# Altium schematic symbol library EMG_Controlled_R5.SchLib: 316 symbols (part 3 of 5)
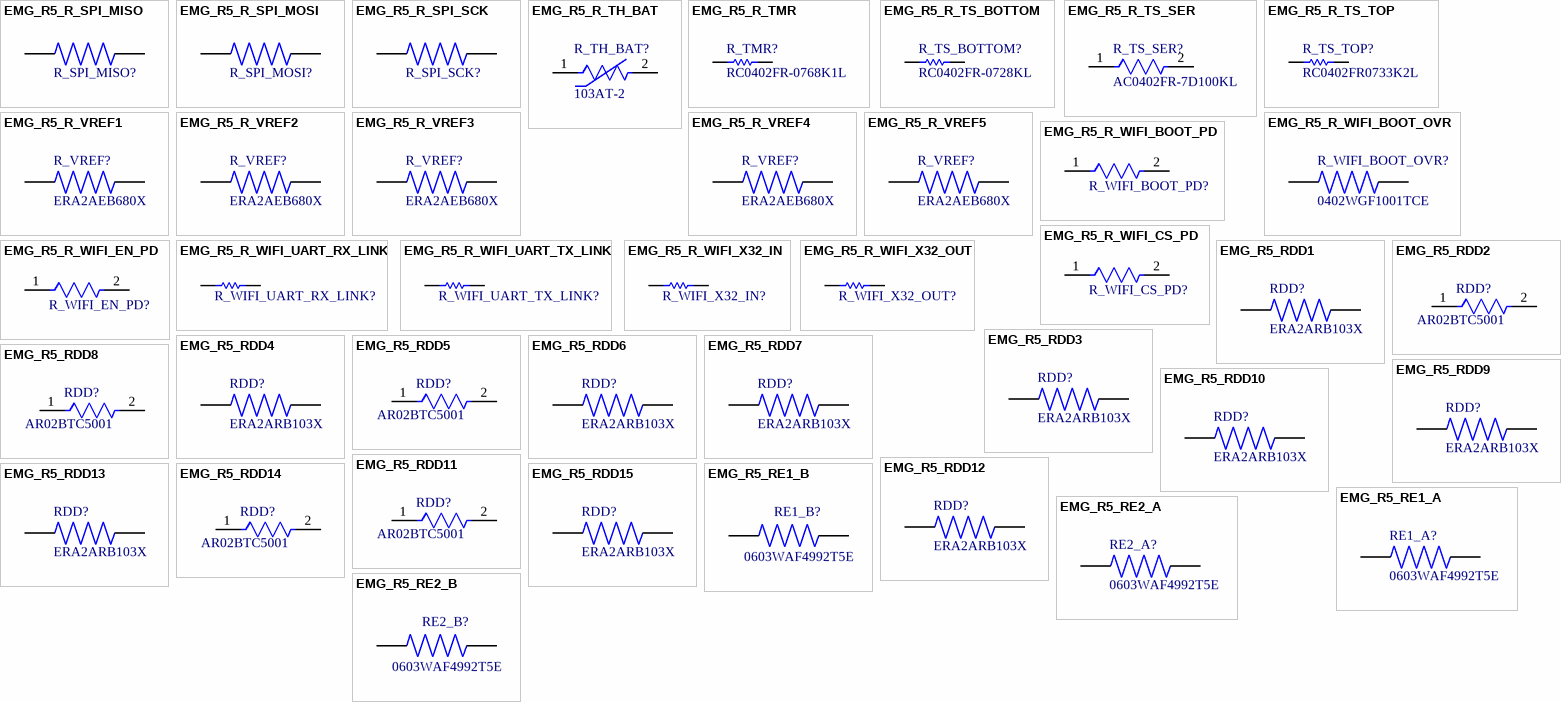
[diagram p10: symbols EMG_R5_R_SPI_MISO to EMG_R5_RE2_B]

## EMG_R5_R_SPI_MISO
designator R_SPI_MISO?, comment ERJ2RKF22R0X  (value not drawn)
22 Ohms Â±1% 0.1W, 1/10W Chip Resistor 0402 (1005 Metric) Automotive AEC-Q200 Thick Film; MF: Panasonic; Controlled Revision: R5 2026-09-16; project-local frozen symbol/footprint; MP: ERJ2RKF22R0X; Package: 1005-2 Panasonic; Value: *; Digi-Key_Part_Number: P22.0LTR-ND; Check_prices: https://www.snapeda.com/parts/ERJ2RKF22R0X/Panasonic/view-part/?ref=eda; SnapEDA_Link: https://www.snapeda.com/parts/ERJ2RKF22R0X/Panasonic/view-part/?ref=snap
footprint RES_ERJ2RKF22R0X
pins: 1, 2

## EMG_R5_R_SPI_MOSI
designator R_SPI_MOSI?, comment ERJ2RKF22R0X  (value not drawn)
22 Ohms Â±1% 0.1W, 1/10W Chip Resistor 0402 (1005 Metric) Automotive AEC-Q200 Thick Film; MF: Panasonic; Controlled Revision: R5 2026-09-16; project-local frozen symbol/footprint; MP: ERJ2RKF22R0X; Package: 1005-2 Panasonic; Value: *; Digi-Key_Part_Number: P22.0LTR-ND; Check_prices: https://www.snapeda.com/parts/ERJ2RKF22R0X/Panasonic/view-part/?ref=eda; SnapEDA_Link: https://www.snapeda.com/parts/ERJ2RKF22R0X/Panasonic/view-part/?ref=snap
footprint RES_ERJ2RKF22R0X
pins: 1, 2

## EMG_R5_R_SPI_SCK
designator R_SPI_SCK?, comment ERJ2RKF22R0X  (value not drawn)
22 Ohms Â±1% 0.1W, 1/10W Chip Resistor 0402 (1005 Metric) Automotive AEC-Q200 Thick Film; MF: Panasonic; Controlled Revision: R5 2026-09-16; project-local frozen symbol/footprint; MP: ERJ2RKF22R0X; Package: 1005-2 Panasonic; Value: *; Digi-Key_Part_Number: P22.0LTR-ND; Check_prices: https://www.snapeda.com/parts/ERJ2RKF22R0X/Panasonic/view-part/?ref=eda; SnapEDA_Link: https://www.snapeda.com/parts/ERJ2RKF22R0X/Panasonic/view-part/?ref=snap
footprint RES_ERJ2RKF22R0X
pins: 1, 2

## EMG_R5_R_TH_BAT
designator R_TH_BAT?, comment 103AT-2
Required remote cell-temperature NTC; manual off-board assembly; Manufacturer: SEMITEC Corporation; Resistance: 10 kohm at 25 C; Tolerance: +/-1% at 25 C; Beta B25/85: 3435 K +/-1%; Mounting_Location: Battery cell / off-board; Connection: Two insulated leads to R_TH_BAT pads: pad1 GND, pad2 BAT_TEMP; PCB_Auto_Assembly: Exclude - required manual off-board assembly item; Procurement_Quantity_Per_System: 1; Assembly PROTO_1_REMOTE_NTC: Required - manual remote assembly; Release Note: Only one connected NTC. Do not connect a second pack NTC to J_Li-Po pin2. Wire fit, insulation, cell attachment and strain relief require qualification.; Library Reference: EMG_R5_R_TH_BAT; Controlled Revision: Remote NTC 2026-09-16; project-local symbol and wire-termination model; Manufacturer Part Number: 103AT-2; Series: AT; Package: AT-2 resin-coated radial thermistor; body mounted on cell; Footprint: EMG_REMOTE_NTC_TERMINALS_2P; Assembly_Method: Manual; Population: Required; Datasheet: https://www.semitec-global.com/uploads/2022/01/P12-13-AT-Thermistor.pdf; Library Name: EMG_Controlled_R5.SchLib
footprint EMG_REMOTE_NTC_TERMINALS_2P
pins: 1, 2

## EMG_R5_R_TMR
designator R_TMR?, comment RC0402FR-0768K1L
Manufacturer: Yageo / Phycomp; Controlled Revision: R5 2026-09-16; project-local frozen symbol/footprint; Part Number: RC0402FR-0768K1L
footprint RESC1005X40X25ML05T10 (Chip Resistor, 2-Leads, Body 1.00x0.50mm, IPC Low Density)
pins: 1, 2
1 alternate drawing of the same symbol

## EMG_R5_R_TS_BOTTOM
designator R_TS_BOTTOM?, comment RC0402FR-0728KL
Manufacturer: Yageo; Controlled Revision: R5 2026-09-16; project-local frozen symbol/footprint; Part Number: RC0402FR-0728KL
footprint RESC1005X40X25NL05T10 (Chip Resistor, 2-Leads, Body 1.00x0.50mm, IPC Medium Density)
pins: 1, 2
1 alternate drawing of the same symbol

## EMG_R5_R_TS_SER
designator R_TS_SER?, comment AC0402FR-7D100KL
AC0402 100KΩ 0.0625W 1.00%; Manufacturer: Yageo; Automotive Grade: Grade 0; Voltage Rating: 50V; Tolerance: 0.01; Controlled Revision: R5 2026-09-16; project-local frozen symbol/footprint; Resistance: 100KΩ; Automotive: Yes; Device Class L1: Passive Components; Temperature Range High: +155°C; ComponentLink2URL: http://www.yageo.com/documents/recent/PYu-AC_51_RoHS_L_6.pdf; Footprint Url: http://www.yageo.com/exep/pages/download/literatures/PYu-R_Mount_10.pdf; Power Rating: 0.0625W; RoHS: TRUE; Category: Res; Package: AC0402; Octopart: https://octopart.com/ac0402fr-7d100kl-yageo-91024821; Device Class L2: Resistors; Series: AC; Height: 0.37mm; ComponentLink2Description: Datasheet; Lead Free: Yes; Temperature Range Low: -55°C; Value: 100KΩ; Temperature: -55°C to +155°C; Ipc Land Pattern Name: RESC10050X32; Device Class L3: Chip SMD Resistors; Manufacturer Part Number: AC0402FR-7D100KL; Composition: Thick Film
footprint FP-AC0402-MFG
pins: 1, 2

## EMG_R5_R_TS_TOP
designator R_TS_TOP?, comment RC0402FR0733K2L
Manufacturer: Yageo / Phycomp; Controlled Revision: R5 2026-09-16; project-local frozen symbol/footprint; Part Number: RC0402FR0733K2L
footprint RESC1005X40X25NL05T10 (Chip Resistor, 2-Leads, Body 1.00x0.50mm, IPC Medium Density)
pins: 1, 2
1 alternate drawing of the same symbol

## EMG_R5_R_VREF1
designator R_VREF?, comment ERA2AEB680X
Controlled Revision: R5 2026-09-16; project-local frozen symbol/footprint; Value: *; Package: None; MP: ERA2AEB680X; Price: None; Availability: Unavailable
footprint RES_ERA2AEB680X
pins: 1, 2

## EMG_R5_R_VREF2
designator R_VREF?, comment ERA2AEB680X
Controlled Revision: R5 2026-09-16; project-local frozen symbol/footprint; Value: *; Package: None; MP: ERA2AEB680X; Price: None; Availability: Unavailable
footprint RES_ERA2AEB680X
pins: 1, 2

## EMG_R5_R_VREF3
designator R_VREF?, comment ERA2AEB680X
Controlled Revision: R5 2026-09-16; project-local frozen symbol/footprint; Value: *; Package: None; MP: ERA2AEB680X; Price: None; Availability: Unavailable
footprint RES_ERA2AEB680X
pins: 1, 2

## EMG_R5_R_VREF4
designator R_VREF?, comment ERA2AEB680X
Controlled Revision: R5 2026-09-16; project-local frozen symbol/footprint; Value: *; Package: None; MP: ERA2AEB680X; Price: None; Availability: Unavailable
footprint RES_ERA2AEB680X
pins: 1, 2

## EMG_R5_R_VREF5
designator R_VREF?, comment ERA2AEB680X
Controlled Revision: R5 2026-09-16; project-local frozen symbol/footprint; Value: *; Package: None; MP: ERA2AEB680X; Price: None; Availability: Unavailable
footprint RES_ERA2AEB680X
pins: 1, 2

## EMG_R5_R_WIFI_BOOT_OVR
designator R_WIFI_BOOT_OVR?, comment 0402WGF1001TCE
1K Ohm 1/16W Thick Film Resistor 0402 Chip - Surface Mount; MF: Uni-Royal; Controlled Revision: R5 2026-09-16; project-local frozen symbol/footprint; SnapEDA_Link: https://www.snapeda.com/parts/0402WGF1001TCE/Uni-Royal/view-part/?ref=snap; Package: 0402-2 ROYAL; Value: *; MP: 0402WGF1001TCE; Check_prices: https://www.snapeda.com/parts/0402WGF1001TCE/Uni-Royal/view-part/?ref=eda
footprint RESC1005X40N
pins: 1, 2

## EMG_R5_R_WIFI_BOOT_PD
designator R_WIFI_BOOT_PD?, comment RT0402BRD0710KL  (value not drawn)
RES 10.0K OHM 1/16W .1% SMD 0402; Manufacturer: Yageo; Value: 10KΩ; Voltage Rating: 50V; Power Rating: 0.063W; Temperature Coefficient: 25 ppm/°C; Tolerance: 0.001; Controlled Revision: R5 2026-09-16; project-local frozen symbol/footprint; Height: 0.35mm; Ipc Land Pattern Name: RESC10050X30; Device Class L1: Passive Components; Mouser Description: Thin Film Resistors - SMD 10K ohm 0.1% 1/16W; ComponentLink2URL: http://www.yageo.com/documents/recent/PYu-RT_1-to-0.01_RoHS_L_9.pdf; Automotive: No; Series: RT; Package: RT0402; ComponentLink2Description: Datasheet; Footprint Url: http://www.yageo.com/exep/pages/download/literatures/PYu-R_Mount_10.pdf; Digikey Description: RES 10.0K OHM 1/16W .1% SMD 0402; Resistance: 10KΩ; Temperature Range High: +155°C; Device Class L3: Chip SMD Resistors; Manufacturer Part Number: RT0402BRD0710KL; Lead Free: Yes; Category: Res; Device Class L2: Resistors; RoHS: TRUE; Temperature Range Low: -55°C; Composition: Thin Film; Temperature: -55°C to +155°C; Octopart: https://octopart.com/rt0402brd0710kl-yageo-1181432
footprint FP-RT0402-MFG
pins: 1, 2

## EMG_R5_R_WIFI_CS_PD
designator R_WIFI_CS_PD?, comment RT0402BRD0710KL  (value not drawn)
RES 10.0K OHM 1/16W .1% SMD 0402; Manufacturer: Yageo; Value: 10KΩ; Voltage Rating: 50V; Power Rating: 0.063W; Temperature Coefficient: 25 ppm/°C; Tolerance: 0.001; Controlled Revision: R5 2026-09-16; project-local frozen symbol/footprint; Height: 0.35mm; Ipc Land Pattern Name: RESC10050X30; Device Class L1: Passive Components; Mouser Description: Thin Film Resistors - SMD 10K ohm 0.1% 1/16W; ComponentLink2URL: http://www.yageo.com/documents/recent/PYu-RT_1-to-0.01_RoHS_L_9.pdf; Automotive: No; Series: RT; Package: RT0402; ComponentLink2Description: Datasheet; Footprint Url: http://www.yageo.com/exep/pages/download/literatures/PYu-R_Mount_10.pdf; Digikey Description: RES 10.0K OHM 1/16W .1% SMD 0402; Resistance: 10KΩ; Temperature Range High: +155°C; Device Class L3: Chip SMD Resistors; Manufacturer Part Number: RT0402BRD0710KL; Lead Free: Yes; Category: Res; Device Class L2: Resistors; RoHS: TRUE; Temperature Range Low: -55°C; Composition: Thin Film; Temperature: -55°C to +155°C; Octopart: https://octopart.com/rt0402brd0710kl-yageo-1181432
footprint FP-RT0402-MFG
pins: 1, 2

## EMG_R5_R_WIFI_EN_PD
designator R_WIFI_EN_PD?, comment RT0402BRD0710KL  (value not drawn)
RES 10.0K OHM 1/16W .1% SMD 0402; Manufacturer: Yageo; Value: 10KΩ; Voltage Rating: 50V; Power Rating: 0.063W; Temperature Coefficient: 25 ppm/°C; Tolerance: 0.001; Controlled Revision: R5 2026-09-16; project-local frozen symbol/footprint; Height: 0.35mm; Ipc Land Pattern Name: RESC10050X30; Device Class L1: Passive Components; Mouser Description: Thin Film Resistors - SMD 10K ohm 0.1% 1/16W; ComponentLink2URL: http://www.yageo.com/documents/recent/PYu-RT_1-to-0.01_RoHS_L_9.pdf; Automotive: No; Series: RT; Package: RT0402; ComponentLink2Description: Datasheet; Footprint Url: http://www.yageo.com/exep/pages/download/literatures/PYu-R_Mount_10.pdf; Digikey Description: RES 10.0K OHM 1/16W .1% SMD 0402; Resistance: 10KΩ; Temperature Range High: +155°C; Device Class L3: Chip SMD Resistors; Manufacturer Part Number: RT0402BRD0710KL; Lead Free: Yes; Category: Res; Device Class L2: Resistors; RoHS: TRUE; Temperature Range Low: -55°C; Composition: Thin Film; Temperature: -55°C to +155°C; Octopart: https://octopart.com/rt0402brd0710kl-yageo-1181432
footprint FP-RT0402-MFG
pins: 1, 2

## EMG_R5_R_WIFI_UART_RX_LINK
designator R_WIFI_UART_RX_LINK?, comment ERJ2GE0R00X  (value not drawn)
Chip Resistor, 0 Ohm, 0.1 W, -55 to 155 degC, 0402 (1005 Metric), RoHS, Tape and Reel; Manufacturer: Panasonic; Voltage Rating (DC): 50V; Temperature Coefficient: 600ppm/��C; Max Power Dissipation: 100mW; Resistance: 0mOhm; Tolerance: 5%; Controlled Revision: R5 2026-09-16; project-local frozen symbol/footprint; Number of Terminations: 2; Mount: SurfaceMount; Height: 0.35mm; Packaging: TapeandReel; Contact Plating: Tin; Manufacturer URL: http://www.panasonic.com/; Composition: ThickFilm; Max Operating Temperature: 155degC; REACH SVHC: NoSVHC; Case/Package: 0402; Package Reference: 402; Depth: 0.5mm; Package Description: 2-Pin Surface Mount Device, Body 1 x 0.5 mm; Datasheet URL: https://industrial.panasonic.com/cdbs/www-data/pdf/RDA0000/AOA0000C301.pdf; RoHSCompliant: True; Case Code (Imperial): 0402; Military Standard: Not; Min Operating Temperature: -55degC; Power Rating: 100mW; Datasheet Version: 03/2015; Length: 1mm; Case Code (Metric): 1005; Termination: SMD/SMT; Mounting Technology: SurfaceMount; Voltage Rating: 50V; Width: 0.02inch; Package Quantity: 1; Lead Free: LeadFree; Radiation Hardening: No
footprint RESC1005X40X25LL05T05 (Chip Resistor, 2-Leads, Body 1.05x0.55mm, IPC High Density)
pins: 1, 2

## EMG_R5_R_WIFI_UART_TX_LINK
designator R_WIFI_UART_TX_LINK?, comment ERJ2GE0R00X  (value not drawn)
Chip Resistor, 0 Ohm, 0.1 W, -55 to 155 degC, 0402 (1005 Metric), RoHS, Tape and Reel; Manufacturer: Panasonic; Voltage Rating (DC): 50V; Temperature Coefficient: 600ppm/��C; Max Power Dissipation: 100mW; Resistance: 0mOhm; Tolerance: 5%; Controlled Revision: R5 2026-09-16; project-local frozen symbol/footprint; Number of Terminations: 2; Mount: SurfaceMount; Height: 0.35mm; Packaging: TapeandReel; Contact Plating: Tin; Manufacturer URL: http://www.panasonic.com/; Composition: ThickFilm; Max Operating Temperature: 155degC; REACH SVHC: NoSVHC; Case/Package: 0402; Package Reference: 402; Depth: 0.5mm; Package Description: 2-Pin Surface Mount Device, Body 1 x 0.5 mm; Datasheet URL: https://industrial.panasonic.com/cdbs/www-data/pdf/RDA0000/AOA0000C301.pdf; RoHSCompliant: True; Case Code (Imperial): 0402; Military Standard: Not; Min Operating Temperature: -55degC; Power Rating: 100mW; Datasheet Version: 03/2015; Length: 1mm; Case Code (Metric): 1005; Termination: SMD/SMT; Mounting Technology: SurfaceMount; Voltage Rating: 50V; Width: 0.02inch; Package Quantity: 1; Lead Free: LeadFree; Radiation Hardening: No
footprint RESC1005X40X25LL05T05 (Chip Resistor, 2-Leads, Body 1.05x0.55mm, IPC High Density)
pins: 1, 2

## EMG_R5_R_WIFI_X32_IN
designator R_WIFI_X32_IN?, comment ERJ2GE0R00X  (value not drawn)
Chip Resistor, 0 Ohm, 0.1 W, -55 to 155 degC, 0402 (1005 Metric), RoHS, Tape and Reel; Manufacturer: Panasonic; Voltage Rating (DC): 50V; Temperature Coefficient: 600ppm/��C; Max Power Dissipation: 100mW; Resistance: 0mOhm; Tolerance: 5%; Controlled Revision: R5 2026-09-16; project-local frozen symbol/footprint; Number of Terminations: 2; Mount: SurfaceMount; Height: 0.35mm; Packaging: TapeandReel; Contact Plating: Tin; Manufacturer URL: http://www.panasonic.com/; Composition: ThickFilm; Max Operating Temperature: 155degC; REACH SVHC: NoSVHC; Case/Package: 0402; Package Reference: 402; Depth: 0.5mm; Package Description: 2-Pin Surface Mount Device, Body 1 x 0.5 mm; Datasheet URL: https://industrial.panasonic.com/cdbs/www-data/pdf/RDA0000/AOA0000C301.pdf; RoHSCompliant: True; Case Code (Imperial): 0402; Military Standard: Not; Min Operating Temperature: -55degC; Power Rating: 100mW; Datasheet Version: 03/2015; Length: 1mm; Case Code (Metric): 1005; Termination: SMD/SMT; Mounting Technology: SurfaceMount; Voltage Rating: 50V; Width: 0.02inch; Package Quantity: 1; Lead Free: LeadFree; Radiation Hardening: No
footprint RESC1005X40X25LL05T05 (Chip Resistor, 2-Leads, Body 1.05x0.55mm, IPC High Density)
pins: 1, 2

## EMG_R5_R_WIFI_X32_OUT
designator R_WIFI_X32_OUT?, comment ERJ2GE0R00X  (value not drawn)
Chip Resistor, 0 Ohm, 0.1 W, -55 to 155 degC, 0402 (1005 Metric), RoHS, Tape and Reel; Manufacturer: Panasonic; Voltage Rating (DC): 50V; Temperature Coefficient: 600ppm/��C; Max Power Dissipation: 100mW; Resistance: 0mOhm; Tolerance: 5%; Controlled Revision: R5 2026-09-16; project-local frozen symbol/footprint; Number of Terminations: 2; Mount: SurfaceMount; Height: 0.35mm; Packaging: TapeandReel; Contact Plating: Tin; Manufacturer URL: http://www.panasonic.com/; Composition: ThickFilm; Max Operating Temperature: 155degC; REACH SVHC: NoSVHC; Case/Package: 0402; Package Reference: 402; Depth: 0.5mm; Package Description: 2-Pin Surface Mount Device, Body 1 x 0.5 mm; Datasheet URL: https://industrial.panasonic.com/cdbs/www-data/pdf/RDA0000/AOA0000C301.pdf; RoHSCompliant: True; Case Code (Imperial): 0402; Military Standard: Not; Min Operating Temperature: -55degC; Power Rating: 100mW; Datasheet Version: 03/2015; Length: 1mm; Case Code (Metric): 1005; Termination: SMD/SMT; Mounting Technology: SurfaceMount; Voltage Rating: 50V; Width: 0.02inch; Package Quantity: 1; Lead Free: LeadFree; Radiation Hardening: No
footprint RESC1005X40X25LL05T05 (Chip Resistor, 2-Leads, Body 1.05x0.55mm, IPC High Density)
pins: 1, 2

## EMG_R5_RDD1
designator RDD?, comment ERA2ARB103X
Controlled Revision: R5 2026-09-16; project-local frozen symbol/footprint; MP: ERA2ARB103X; Price: None; Availability: Unavailable; Package: None; Value: *
footprint RES_ERA2ARB103X
pins: 1, 2

## EMG_R5_RDD2
designator RDD?, comment AR02BTC5001
-55℃~+155℃ 50V 5kΩ 63mW Thin Film Resistor ±0.1% ±25ppm/℃ 0402 Chip Resistor - Surface Mount ROH; Manufacturer: Viking Tech; Automotive Grade: Grade 0; Power Rating: 0.0625W; Controlled Revision: R5 2026-09-16; project-local frozen symbol/footprint; Resistance: 5KΩ; Automotive: No; Device Class L1: Passive Components; Temperature Range High: +155°C; ComponentLink2URL: https://www.viking.com.tw/Templates/att/Thin%20Film%20Resistor%20short%20form.pdf; Footprint Url: https://www.viking.com.tw/Templates/att/Thin%20Film%20Resistor%20short%20form.pdf; RoHS: TRUE; Category: Resistors/Chip Resistor - Surface Mount; Package: AR0402; Octopart: https://octopart.com/datasheet/viking-tech/AR02BTC5001; Device Class L2: Resistors; Series: AR; Voltage Rating: 50V; Height: 0.35mm; ComponentLink2Description: Datasheet; Lead Free: Yes; Temperature Range Low: -55°C; Value: 5KΩ; Temperature: -55°C to +155°C; Ipc Land Pattern Name: RESC10050X32; Device Class L3: Chip SMD Resistors; Manufacturer Part Number: AR02BTC5001; Composition: Thin Film; Tolerance: ±0.1%; LCSC Part: C5948099
footprint FP-AC0402-MFG
pins: 1, 2

## EMG_R5_RDD3
designator RDD?, comment ERA2ARB103X
Controlled Revision: R5 2026-09-16; project-local frozen symbol/footprint; MP: ERA2ARB103X; Price: None; Availability: Unavailable; Package: None; Value: *
footprint RES_ERA2ARB103X
pins: 1, 2

## EMG_R5_RDD4
designator RDD?, comment ERA2ARB103X
Controlled Revision: R5 2026-09-16; project-local frozen symbol/footprint; MP: ERA2ARB103X; Price: None; Availability: Unavailable; Package: None; Value: *
footprint RES_ERA2ARB103X
pins: 1, 2

## EMG_R5_RDD5
designator RDD?, comment AR02BTC5001
-55℃~+155℃ 50V 5kΩ 63mW Thin Film Resistor ±0.1% ±25ppm/℃ 0402 Chip Resistor - Surface Mount ROH; Manufacturer: Viking Tech; Automotive Grade: Grade 0; Power Rating: 0.0625W; Controlled Revision: R5 2026-09-16; project-local frozen symbol/footprint; Resistance: 5KΩ; Automotive: No; Device Class L1: Passive Components; Temperature Range High: +155°C; ComponentLink2URL: https://www.viking.com.tw/Templates/att/Thin%20Film%20Resistor%20short%20form.pdf; Footprint Url: https://www.viking.com.tw/Templates/att/Thin%20Film%20Resistor%20short%20form.pdf; RoHS: TRUE; Category: Resistors/Chip Resistor - Surface Mount; Package: AR0402; Octopart: https://octopart.com/datasheet/viking-tech/AR02BTC5001; Device Class L2: Resistors; Series: AR; Voltage Rating: 50V; Height: 0.35mm; ComponentLink2Description: Datasheet; Lead Free: Yes; Temperature Range Low: -55°C; Value: 5KΩ; Temperature: -55°C to +155°C; Ipc Land Pattern Name: RESC10050X32; Device Class L3: Chip SMD Resistors; Manufacturer Part Number: AR02BTC5001; Composition: Thin Film; Tolerance: ±0.1%; LCSC Part: C5948099
footprint FP-AC0402-MFG
pins: 1, 2

## EMG_R5_RDD6
designator RDD?, comment ERA2ARB103X
Controlled Revision: R5 2026-09-16; project-local frozen symbol/footprint; MP: ERA2ARB103X; Price: None; Availability: Unavailable; Package: None; Value: *
footprint RES_ERA2ARB103X
pins: 1, 2

## EMG_R5_RDD7
designator RDD?, comment ERA2ARB103X
Controlled Revision: R5 2026-09-16; project-local frozen symbol/footprint; MP: ERA2ARB103X; Price: None; Availability: Unavailable; Package: None; Value: *
footprint RES_ERA2ARB103X
pins: 1, 2

## EMG_R5_RDD8
designator RDD?, comment AR02BTC5001
-55℃~+155℃ 50V 5kΩ 63mW Thin Film Resistor ±0.1% ±25ppm/℃ 0402 Chip Resistor - Surface Mount ROH; Manufacturer: Viking Tech; Automotive Grade: Grade 0; Power Rating: 0.0625W; Controlled Revision: R5 2026-09-16; project-local frozen symbol/footprint; Resistance: 5KΩ; Automotive: No; Device Class L1: Passive Components; Temperature Range High: +155°C; ComponentLink2URL: https://www.viking.com.tw/Templates/att/Thin%20Film%20Resistor%20short%20form.pdf; Footprint Url: https://www.viking.com.tw/Templates/att/Thin%20Film%20Resistor%20short%20form.pdf; RoHS: TRUE; Category: Resistors/Chip Resistor - Surface Mount; Package: AR0402; Octopart: https://octopart.com/datasheet/viking-tech/AR02BTC5001; Device Class L2: Resistors; Series: AR; Voltage Rating: 50V; Height: 0.35mm; ComponentLink2Description: Datasheet; Lead Free: Yes; Temperature Range Low: -55°C; Value: 5KΩ; Temperature: -55°C to +155°C; Ipc Land Pattern Name: RESC10050X32; Device Class L3: Chip SMD Resistors; Manufacturer Part Number: AR02BTC5001; Composition: Thin Film; Tolerance: ±0.1%; LCSC Part: C5948099
footprint FP-AC0402-MFG
pins: 1, 2

## EMG_R5_RDD9
designator RDD?, comment ERA2ARB103X
Controlled Revision: R5 2026-09-16; project-local frozen symbol/footprint; MP: ERA2ARB103X; Price: None; Availability: Unavailable; Package: None; Value: *
footprint RES_ERA2ARB103X
pins: 1, 2

## EMG_R5_RDD10
designator RDD?, comment ERA2ARB103X
Controlled Revision: R5 2026-09-16; project-local frozen symbol/footprint; MP: ERA2ARB103X; Price: None; Availability: Unavailable; Package: None; Value: *
footprint RES_ERA2ARB103X
pins: 1, 2

## EMG_R5_RDD11
designator RDD?, comment AR02BTC5001
-55℃~+155℃ 50V 5kΩ 63mW Thin Film Resistor ±0.1% ±25ppm/℃ 0402 Chip Resistor - Surface Mount ROH; Manufacturer: Viking Tech; Automotive Grade: Grade 0; Power Rating: 0.0625W; Controlled Revision: R5 2026-09-16; project-local frozen symbol/footprint; Resistance: 5KΩ; Automotive: No; Device Class L1: Passive Components; Temperature Range High: +155°C; ComponentLink2URL: https://www.viking.com.tw/Templates/att/Thin%20Film%20Resistor%20short%20form.pdf; Footprint Url: https://www.viking.com.tw/Templates/att/Thin%20Film%20Resistor%20short%20form.pdf; RoHS: TRUE; Category: Resistors/Chip Resistor - Surface Mount; Package: AR0402; Octopart: https://octopart.com/datasheet/viking-tech/AR02BTC5001; Device Class L2: Resistors; Series: AR; Voltage Rating: 50V; Height: 0.35mm; ComponentLink2Description: Datasheet; Lead Free: Yes; Temperature Range Low: -55°C; Value: 5KΩ; Temperature: -55°C to +155°C; Ipc Land Pattern Name: RESC10050X32; Device Class L3: Chip SMD Resistors; Manufacturer Part Number: AR02BTC5001; Composition: Thin Film; Tolerance: ±0.1%; LCSC Part: C5948099
footprint FP-AC0402-MFG
pins: 1, 2

## EMG_R5_RDD12
designator RDD?, comment ERA2ARB103X
Controlled Revision: R5 2026-09-16; project-local frozen symbol/footprint; MP: ERA2ARB103X; Price: None; Availability: Unavailable; Package: None; Value: *
footprint RES_ERA2ARB103X
pins: 1, 2

## EMG_R5_RDD13
designator RDD?, comment ERA2ARB103X
Controlled Revision: R5 2026-09-16; project-local frozen symbol/footprint; MP: ERA2ARB103X; Price: None; Availability: Unavailable; Package: None; Value: *
footprint RES_ERA2ARB103X
pins: 1, 2

## EMG_R5_RDD14
designator RDD?, comment AR02BTC5001
-55℃~+155℃ 50V 5kΩ 63mW Thin Film Resistor ±0.1% ±25ppm/℃ 0402 Chip Resistor - Surface Mount ROH; Manufacturer: Viking Tech; Automotive Grade: Grade 0; Power Rating: 0.0625W; Controlled Revision: R5 2026-09-16; project-local frozen symbol/footprint; Resistance: 5KΩ; Automotive: No; Device Class L1: Passive Components; Temperature Range High: +155°C; ComponentLink2URL: https://www.viking.com.tw/Templates/att/Thin%20Film%20Resistor%20short%20form.pdf; Footprint Url: https://www.viking.com.tw/Templates/att/Thin%20Film%20Resistor%20short%20form.pdf; RoHS: TRUE; Category: Resistors/Chip Resistor - Surface Mount; Package: AR0402; Octopart: https://octopart.com/datasheet/viking-tech/AR02BTC5001; Device Class L2: Resistors; Series: AR; Voltage Rating: 50V; Height: 0.35mm; ComponentLink2Description: Datasheet; Lead Free: Yes; Temperature Range Low: -55°C; Value: 5KΩ; Temperature: -55°C to +155°C; Ipc Land Pattern Name: RESC10050X32; Device Class L3: Chip SMD Resistors; Manufacturer Part Number: AR02BTC5001; Composition: Thin Film; Tolerance: ±0.1%; LCSC Part: C5948099
footprint FP-AC0402-MFG
pins: 1, 2

## EMG_R5_RDD15
designator RDD?, comment ERA2ARB103X
Controlled Revision: R5 2026-09-16; project-local frozen symbol/footprint; MP: ERA2ARB103X; Price: None; Availability: Unavailable; Package: None; Value: *
footprint RES_ERA2ARB103X
pins: 1, 2

## EMG_R5_RE1_A
designator RE1_A?, comment 0603WAF4992T5E
49.9K Ohm 1/10W Thick Film Resistor 0603 Chip - Surface Mount; MF: Uni-Royal; Controlled Revision: R5 2026-09-16; project-local frozen symbol/footprint; Package: None; Value: *; SnapEDA_Link: https://www.snapeda.com/parts/0603WAF4992T5E/Uni-Royal/view-part/?ref=snap; MP: 0603WAF4992T5E; Check_prices: https://www.snapeda.com/parts/0603WAF4992T5E/Uni-Royal/view-part/?ref=eda
footprint RESC1608X55N
pins: 1, 2

## EMG_R5_RE1_B
designator RE1_B?, comment 0603WAF4992T5E
49.9K Ohm 1/10W Thick Film Resistor 0603 Chip - Surface Mount; MF: Uni-Royal; Controlled Revision: R5 2026-09-16; project-local frozen symbol/footprint; Package: None; Value: *; SnapEDA_Link: https://www.snapeda.com/parts/0603WAF4992T5E/Uni-Royal/view-part/?ref=snap; MP: 0603WAF4992T5E; Check_prices: https://www.snapeda.com/parts/0603WAF4992T5E/Uni-Royal/view-part/?ref=eda
footprint RESC1608X55N
pins: 1, 2

## EMG_R5_RE2_A
designator RE2_A?, comment 0603WAF4992T5E
49.9K Ohm 1/10W Thick Film Resistor 0603 Chip - Surface Mount; MF: Uni-Royal; Controlled Revision: R5 2026-09-16; project-local frozen symbol/footprint; Package: None; Value: *; SnapEDA_Link: https://www.snapeda.com/parts/0603WAF4992T5E/Uni-Royal/view-part/?ref=snap; MP: 0603WAF4992T5E; Check_prices: https://www.snapeda.com/parts/0603WAF4992T5E/Uni-Royal/view-part/?ref=eda
footprint RESC1608X55N
pins: 1, 2

## EMG_R5_RE2_B
designator RE2_B?, comment 0603WAF4992T5E
49.9K Ohm 1/10W Thick Film Resistor 0603 Chip - Surface Mount; MF: Uni-Royal; Controlled Revision: R5 2026-09-16; project-local frozen symbol/footprint; Package: None; Value: *; SnapEDA_Link: https://www.snapeda.com/parts/0603WAF4992T5E/Uni-Royal/view-part/?ref=snap; MP: 0603WAF4992T5E; Check_prices: https://www.snapeda.com/parts/0603WAF4992T5E/Uni-Royal/view-part/?ref=eda
footprint RESC1608X55N
pins: 1, 2

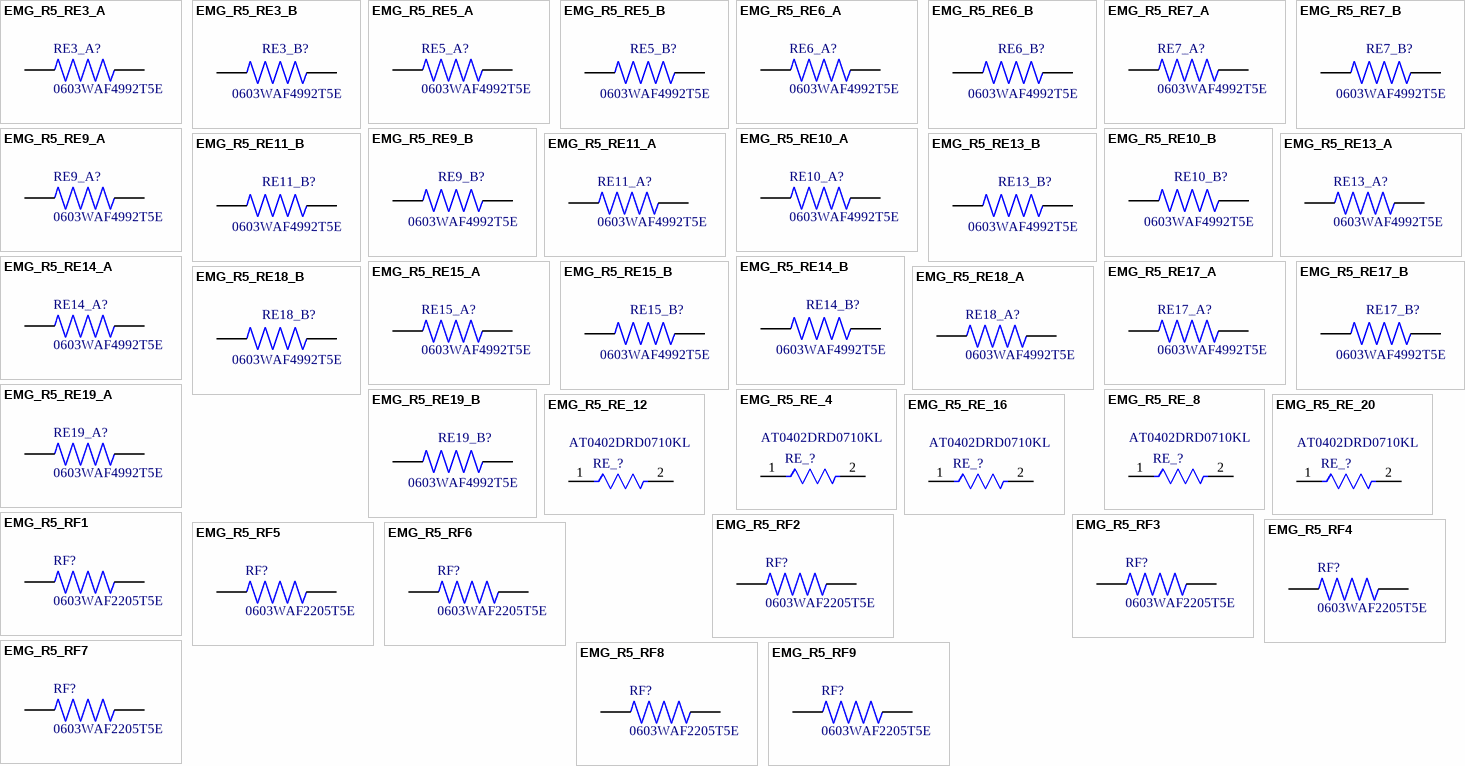
[diagram p5: symbols EMG_R5_RE3_A to EMG_R5_RF9]

## EMG_R5_RE3_A
designator RE3_A?, comment 0603WAF4992T5E
49.9K Ohm 1/10W Thick Film Resistor 0603 Chip - Surface Mount; MF: Uni-Royal; Controlled Revision: R5 2026-09-16; project-local frozen symbol/footprint; Package: None; Value: *; SnapEDA_Link: https://www.snapeda.com/parts/0603WAF4992T5E/Uni-Royal/view-part/?ref=snap; MP: 0603WAF4992T5E; Check_prices: https://www.snapeda.com/parts/0603WAF4992T5E/Uni-Royal/view-part/?ref=eda
footprint RESC1608X55N
pins: 1, 2

## EMG_R5_RE3_B
designator RE3_B?, comment 0603WAF4992T5E
49.9K Ohm 1/10W Thick Film Resistor 0603 Chip - Surface Mount; MF: Uni-Royal; Controlled Revision: R5 2026-09-16; project-local frozen symbol/footprint; Package: None; Value: *; SnapEDA_Link: https://www.snapeda.com/parts/0603WAF4992T5E/Uni-Royal/view-part/?ref=snap; MP: 0603WAF4992T5E; Check_prices: https://www.snapeda.com/parts/0603WAF4992T5E/Uni-Royal/view-part/?ref=eda
footprint RESC1608X55N
pins: 1, 2

## EMG_R5_RE5_A
designator RE5_A?, comment 0603WAF4992T5E
49.9K Ohm 1/10W Thick Film Resistor 0603 Chip - Surface Mount; MF: Uni-Royal; Controlled Revision: R5 2026-09-16; project-local frozen symbol/footprint; Package: None; Value: *; SnapEDA_Link: https://www.snapeda.com/parts/0603WAF4992T5E/Uni-Royal/view-part/?ref=snap; MP: 0603WAF4992T5E; Check_prices: https://www.snapeda.com/parts/0603WAF4992T5E/Uni-Royal/view-part/?ref=eda
footprint RESC1608X55N
pins: 1, 2

## EMG_R5_RE5_B
designator RE5_B?, comment 0603WAF4992T5E
49.9K Ohm 1/10W Thick Film Resistor 0603 Chip - Surface Mount; MF: Uni-Royal; Controlled Revision: R5 2026-09-16; project-local frozen symbol/footprint; Package: None; Value: *; SnapEDA_Link: https://www.snapeda.com/parts/0603WAF4992T5E/Uni-Royal/view-part/?ref=snap; MP: 0603WAF4992T5E; Check_prices: https://www.snapeda.com/parts/0603WAF4992T5E/Uni-Royal/view-part/?ref=eda
footprint RESC1608X55N
pins: 1, 2

## EMG_R5_RE6_A
designator RE6_A?, comment 0603WAF4992T5E
49.9K Ohm 1/10W Thick Film Resistor 0603 Chip - Surface Mount; MF: Uni-Royal; Controlled Revision: R5 2026-09-16; project-local frozen symbol/footprint; Package: None; Value: *; SnapEDA_Link: https://www.snapeda.com/parts/0603WAF4992T5E/Uni-Royal/view-part/?ref=snap; MP: 0603WAF4992T5E; Check_prices: https://www.snapeda.com/parts/0603WAF4992T5E/Uni-Royal/view-part/?ref=eda
footprint RESC1608X55N
pins: 1, 2

## EMG_R5_RE6_B
designator RE6_B?, comment 0603WAF4992T5E
49.9K Ohm 1/10W Thick Film Resistor 0603 Chip - Surface Mount; MF: Uni-Royal; Controlled Revision: R5 2026-09-16; project-local frozen symbol/footprint; Package: None; Value: *; SnapEDA_Link: https://www.snapeda.com/parts/0603WAF4992T5E/Uni-Royal/view-part/?ref=snap; MP: 0603WAF4992T5E; Check_prices: https://www.snapeda.com/parts/0603WAF4992T5E/Uni-Royal/view-part/?ref=eda
footprint RESC1608X55N
pins: 1, 2

## EMG_R5_RE7_A
designator RE7_A?, comment 0603WAF4992T5E
49.9K Ohm 1/10W Thick Film Resistor 0603 Chip - Surface Mount; MF: Uni-Royal; Controlled Revision: R5 2026-09-16; project-local frozen symbol/footprint; Package: None; Value: *; SnapEDA_Link: https://www.snapeda.com/parts/0603WAF4992T5E/Uni-Royal/view-part/?ref=snap; MP: 0603WAF4992T5E; Check_prices: https://www.snapeda.com/parts/0603WAF4992T5E/Uni-Royal/view-part/?ref=eda
footprint RESC1608X55N
pins: 1, 2

## EMG_R5_RE7_B
designator RE7_B?, comment 0603WAF4992T5E
49.9K Ohm 1/10W Thick Film Resistor 0603 Chip - Surface Mount; MF: Uni-Royal; Controlled Revision: R5 2026-09-16; project-local frozen symbol/footprint; Package: None; Value: *; SnapEDA_Link: https://www.snapeda.com/parts/0603WAF4992T5E/Uni-Royal/view-part/?ref=snap; MP: 0603WAF4992T5E; Check_prices: https://www.snapeda.com/parts/0603WAF4992T5E/Uni-Royal/view-part/?ref=eda
footprint RESC1608X55N
pins: 1, 2

## EMG_R5_RE9_A
designator RE9_A?, comment 0603WAF4992T5E
49.9K Ohm 1/10W Thick Film Resistor 0603 Chip - Surface Mount; MF: Uni-Royal; Controlled Revision: R5 2026-09-16; project-local frozen symbol/footprint; Package: None; Value: *; SnapEDA_Link: https://www.snapeda.com/parts/0603WAF4992T5E/Uni-Royal/view-part/?ref=snap; MP: 0603WAF4992T5E; Check_prices: https://www.snapeda.com/parts/0603WAF4992T5E/Uni-Royal/view-part/?ref=eda
footprint RESC1608X55N
pins: 1, 2

## EMG_R5_RE9_B
designator RE9_B?, comment 0603WAF4992T5E
49.9K Ohm 1/10W Thick Film Resistor 0603 Chip - Surface Mount; MF: Uni-Royal; Controlled Revision: R5 2026-09-16; project-local frozen symbol/footprint; Package: None; Value: *; SnapEDA_Link: https://www.snapeda.com/parts/0603WAF4992T5E/Uni-Royal/view-part/?ref=snap; MP: 0603WAF4992T5E; Check_prices: https://www.snapeda.com/parts/0603WAF4992T5E/Uni-Royal/view-part/?ref=eda
footprint RESC1608X55N
pins: 1, 2

## EMG_R5_RE10_A
designator RE10_A?, comment 0603WAF4992T5E
49.9K Ohm 1/10W Thick Film Resistor 0603 Chip - Surface Mount; MF: Uni-Royal; Controlled Revision: R5 2026-09-16; project-local frozen symbol/footprint; Package: None; Value: *; SnapEDA_Link: https://www.snapeda.com/parts/0603WAF4992T5E/Uni-Royal/view-part/?ref=snap; MP: 0603WAF4992T5E; Check_prices: https://www.snapeda.com/parts/0603WAF4992T5E/Uni-Royal/view-part/?ref=eda
footprint RESC1608X55N
pins: 1, 2

## EMG_R5_RE10_B
designator RE10_B?, comment 0603WAF4992T5E
49.9K Ohm 1/10W Thick Film Resistor 0603 Chip - Surface Mount; MF: Uni-Royal; Controlled Revision: R5 2026-09-16; project-local frozen symbol/footprint; Package: None; Value: *; SnapEDA_Link: https://www.snapeda.com/parts/0603WAF4992T5E/Uni-Royal/view-part/?ref=snap; MP: 0603WAF4992T5E; Check_prices: https://www.snapeda.com/parts/0603WAF4992T5E/Uni-Royal/view-part/?ref=eda
footprint RESC1608X55N
pins: 1, 2

## EMG_R5_RE11_A
designator RE11_A?, comment 0603WAF4992T5E
49.9K Ohm 1/10W Thick Film Resistor 0603 Chip - Surface Mount; MF: Uni-Royal; Controlled Revision: R5 2026-09-16; project-local frozen symbol/footprint; Package: None; Value: *; SnapEDA_Link: https://www.snapeda.com/parts/0603WAF4992T5E/Uni-Royal/view-part/?ref=snap; MP: 0603WAF4992T5E; Check_prices: https://www.snapeda.com/parts/0603WAF4992T5E/Uni-Royal/view-part/?ref=eda
footprint RESC1608X55N
pins: 1, 2

## EMG_R5_RE11_B
designator RE11_B?, comment 0603WAF4992T5E
49.9K Ohm 1/10W Thick Film Resistor 0603 Chip - Surface Mount; MF: Uni-Royal; Controlled Revision: R5 2026-09-16; project-local frozen symbol/footprint; Package: None; Value: *; SnapEDA_Link: https://www.snapeda.com/parts/0603WAF4992T5E/Uni-Royal/view-part/?ref=snap; MP: 0603WAF4992T5E; Check_prices: https://www.snapeda.com/parts/0603WAF4992T5E/Uni-Royal/view-part/?ref=eda
footprint RESC1608X55N
pins: 1, 2

## EMG_R5_RE13_A
designator RE13_A?, comment 0603WAF4992T5E
49.9K Ohm 1/10W Thick Film Resistor 0603 Chip - Surface Mount; MF: Uni-Royal; Controlled Revision: R5 2026-09-16; project-local frozen symbol/footprint; Package: None; Value: *; SnapEDA_Link: https://www.snapeda.com/parts/0603WAF4992T5E/Uni-Royal/view-part/?ref=snap; MP: 0603WAF4992T5E; Check_prices: https://www.snapeda.com/parts/0603WAF4992T5E/Uni-Royal/view-part/?ref=eda
footprint RESC1608X55N
pins: 1, 2

## EMG_R5_RE13_B
designator RE13_B?, comment 0603WAF4992T5E
49.9K Ohm 1/10W Thick Film Resistor 0603 Chip - Surface Mount; MF: Uni-Royal; Controlled Revision: R5 2026-09-16; project-local frozen symbol/footprint; Package: None; Value: *; SnapEDA_Link: https://www.snapeda.com/parts/0603WAF4992T5E/Uni-Royal/view-part/?ref=snap; MP: 0603WAF4992T5E; Check_prices: https://www.snapeda.com/parts/0603WAF4992T5E/Uni-Royal/view-part/?ref=eda
footprint RESC1608X55N
pins: 1, 2

## EMG_R5_RE14_A
designator RE14_A?, comment 0603WAF4992T5E
49.9K Ohm 1/10W Thick Film Resistor 0603 Chip - Surface Mount; MF: Uni-Royal; Controlled Revision: R5 2026-09-16; project-local frozen symbol/footprint; Package: None; Value: *; SnapEDA_Link: https://www.snapeda.com/parts/0603WAF4992T5E/Uni-Royal/view-part/?ref=snap; MP: 0603WAF4992T5E; Check_prices: https://www.snapeda.com/parts/0603WAF4992T5E/Uni-Royal/view-part/?ref=eda
footprint RESC1608X55N
pins: 1, 2

## EMG_R5_RE14_B
designator RE14_B?, comment 0603WAF4992T5E
49.9K Ohm 1/10W Thick Film Resistor 0603 Chip - Surface Mount; MF: Uni-Royal; Controlled Revision: R5 2026-09-16; project-local frozen symbol/footprint; Package: None; Value: *; SnapEDA_Link: https://www.snapeda.com/parts/0603WAF4992T5E/Uni-Royal/view-part/?ref=snap; MP: 0603WAF4992T5E; Check_prices: https://www.snapeda.com/parts/0603WAF4992T5E/Uni-Royal/view-part/?ref=eda
footprint RESC1608X55N
pins: 1, 2

## EMG_R5_RE15_A
designator RE15_A?, comment 0603WAF4992T5E
49.9K Ohm 1/10W Thick Film Resistor 0603 Chip - Surface Mount; MF: Uni-Royal; Controlled Revision: R5 2026-09-16; project-local frozen symbol/footprint; Package: None; Value: *; SnapEDA_Link: https://www.snapeda.com/parts/0603WAF4992T5E/Uni-Royal/view-part/?ref=snap; MP: 0603WAF4992T5E; Check_prices: https://www.snapeda.com/parts/0603WAF4992T5E/Uni-Royal/view-part/?ref=eda
footprint RESC1608X55N
pins: 1, 2

## EMG_R5_RE15_B
designator RE15_B?, comment 0603WAF4992T5E
49.9K Ohm 1/10W Thick Film Resistor 0603 Chip - Surface Mount; MF: Uni-Royal; Controlled Revision: R5 2026-09-16; project-local frozen symbol/footprint; Package: None; Value: *; SnapEDA_Link: https://www.snapeda.com/parts/0603WAF4992T5E/Uni-Royal/view-part/?ref=snap; MP: 0603WAF4992T5E; Check_prices: https://www.snapeda.com/parts/0603WAF4992T5E/Uni-Royal/view-part/?ref=eda
footprint RESC1608X55N
pins: 1, 2

## EMG_R5_RE17_A
designator RE17_A?, comment 0603WAF4992T5E
49.9K Ohm 1/10W Thick Film Resistor 0603 Chip - Surface Mount; MF: Uni-Royal; Controlled Revision: R5 2026-09-16; project-local frozen symbol/footprint; Package: None; Value: *; SnapEDA_Link: https://www.snapeda.com/parts/0603WAF4992T5E/Uni-Royal/view-part/?ref=snap; MP: 0603WAF4992T5E; Check_prices: https://www.snapeda.com/parts/0603WAF4992T5E/Uni-Royal/view-part/?ref=eda
footprint RESC1608X55N
pins: 1, 2

## EMG_R5_RE17_B
designator RE17_B?, comment 0603WAF4992T5E
49.9K Ohm 1/10W Thick Film Resistor 0603 Chip - Surface Mount; MF: Uni-Royal; Controlled Revision: R5 2026-09-16; project-local frozen symbol/footprint; Package: None; Value: *; SnapEDA_Link: https://www.snapeda.com/parts/0603WAF4992T5E/Uni-Royal/view-part/?ref=snap; MP: 0603WAF4992T5E; Check_prices: https://www.snapeda.com/parts/0603WAF4992T5E/Uni-Royal/view-part/?ref=eda
footprint RESC1608X55N
pins: 1, 2

## EMG_R5_RE18_A
designator RE18_A?, comment 0603WAF4992T5E
49.9K Ohm 1/10W Thick Film Resistor 0603 Chip - Surface Mount; MF: Uni-Royal; Controlled Revision: R5 2026-09-16; project-local frozen symbol/footprint; Package: None; Value: *; SnapEDA_Link: https://www.snapeda.com/parts/0603WAF4992T5E/Uni-Royal/view-part/?ref=snap; MP: 0603WAF4992T5E; Check_prices: https://www.snapeda.com/parts/0603WAF4992T5E/Uni-Royal/view-part/?ref=eda
footprint RESC1608X55N
pins: 1, 2

## EMG_R5_RE18_B
designator RE18_B?, comment 0603WAF4992T5E
49.9K Ohm 1/10W Thick Film Resistor 0603 Chip - Surface Mount; MF: Uni-Royal; Controlled Revision: R5 2026-09-16; project-local frozen symbol/footprint; Package: None; Value: *; SnapEDA_Link: https://www.snapeda.com/parts/0603WAF4992T5E/Uni-Royal/view-part/?ref=snap; MP: 0603WAF4992T5E; Check_prices: https://www.snapeda.com/parts/0603WAF4992T5E/Uni-Royal/view-part/?ref=eda
footprint RESC1608X55N
pins: 1, 2

## EMG_R5_RE19_A
designator RE19_A?, comment 0603WAF4992T5E
49.9K Ohm 1/10W Thick Film Resistor 0603 Chip - Surface Mount; MF: Uni-Royal; Controlled Revision: R5 2026-09-16; project-local frozen symbol/footprint; Package: None; Value: *; SnapEDA_Link: https://www.snapeda.com/parts/0603WAF4992T5E/Uni-Royal/view-part/?ref=snap; MP: 0603WAF4992T5E; Check_prices: https://www.snapeda.com/parts/0603WAF4992T5E/Uni-Royal/view-part/?ref=eda
footprint RESC1608X55N
pins: 1, 2

## EMG_R5_RE19_B
designator RE19_B?, comment 0603WAF4992T5E
49.9K Ohm 1/10W Thick Film Resistor 0603 Chip - Surface Mount; MF: Uni-Royal; Controlled Revision: R5 2026-09-16; project-local frozen symbol/footprint; Package: None; Value: *; SnapEDA_Link: https://www.snapeda.com/parts/0603WAF4992T5E/Uni-Royal/view-part/?ref=snap; MP: 0603WAF4992T5E; Check_prices: https://www.snapeda.com/parts/0603WAF4992T5E/Uni-Royal/view-part/?ref=eda
footprint RESC1608X55N
pins: 1, 2

## EMG_R5_RE_4
designator RE_?, comment AT0402DRD0710KL
Thin Film Chip Resistors Automotive Grade 10kΩ 0.5% 25ppm/°C 0402; Resistance: 10kR; Max Power Dissipation: 63mW; Controlled Revision: R5 2026-09-16; project-local frozen symbol/footprint; Tolerance: 0.5%; Temperature Coefficient: 25ppm/°C; Width: 0.02inch; RoHS Compliant: Yes; Min Operating Temperature: -55°C; Height: 0.014inch; Case Code (Metric): 1005; Ratings: AEC-Q200; Case/Package: 0402; Max Operating Temperature: 155°C; Number of Terminations: 2; Features: Moisture Resistant; Packaging: Cut Tape; Length: 0.039inch; Series: AT; Resistor Type: Thin Film; Case Code (Imperial): 0402
footprint FP-AT0402-IPC_A
pins: 1, 2

## EMG_R5_RE_8
designator RE_?, comment AT0402DRD0710KL
Thin Film Chip Resistors Automotive Grade 10kΩ 0.5% 25ppm/°C 0402; Resistance: 10kR; Max Power Dissipation: 63mW; Controlled Revision: R5 2026-09-16; project-local frozen symbol/footprint; Tolerance: 0.5%; Temperature Coefficient: 25ppm/°C; Width: 0.02inch; RoHS Compliant: Yes; Min Operating Temperature: -55°C; Height: 0.014inch; Case Code (Metric): 1005; Ratings: AEC-Q200; Case/Package: 0402; Max Operating Temperature: 155°C; Number of Terminations: 2; Features: Moisture Resistant; Packaging: Cut Tape; Length: 0.039inch; Series: AT; Resistor Type: Thin Film; Case Code (Imperial): 0402
footprint FP-AT0402-IPC_A
pins: 1, 2

## EMG_R5_RE_12
designator RE_?, comment AT0402DRD0710KL
Thin Film Chip Resistors Automotive Grade 10kΩ 0.5% 25ppm/°C 0402; Resistance: 10kR; Max Power Dissipation: 63mW; Controlled Revision: R5 2026-09-16; project-local frozen symbol/footprint; Tolerance: 0.5%; Temperature Coefficient: 25ppm/°C; Width: 0.02inch; RoHS Compliant: Yes; Min Operating Temperature: -55°C; Height: 0.014inch; Case Code (Metric): 1005; Ratings: AEC-Q200; Case/Package: 0402; Max Operating Temperature: 155°C; Number of Terminations: 2; Features: Moisture Resistant; Packaging: Cut Tape; Length: 0.039inch; Series: AT; Resistor Type: Thin Film; Case Code (Imperial): 0402
footprint FP-AT0402-IPC_A
pins: 1, 2

## EMG_R5_RE_16
designator RE_?, comment AT0402DRD0710KL
Thin Film Chip Resistors Automotive Grade 10kΩ 0.5% 25ppm/°C 0402; Resistance: 10kR; Max Power Dissipation: 63mW; Controlled Revision: R5 2026-09-16; project-local frozen symbol/footprint; Tolerance: 0.5%; Temperature Coefficient: 25ppm/°C; Width: 0.02inch; RoHS Compliant: Yes; Min Operating Temperature: -55°C; Height: 0.014inch; Case Code (Metric): 1005; Ratings: AEC-Q200; Case/Package: 0402; Max Operating Temperature: 155°C; Number of Terminations: 2; Features: Moisture Resistant; Packaging: Cut Tape; Length: 0.039inch; Series: AT; Resistor Type: Thin Film; Case Code (Imperial): 0402
footprint FP-AT0402-IPC_A
pins: 1, 2

## EMG_R5_RE_20
designator RE_?, comment AT0402DRD0710KL
Thin Film Chip Resistors Automotive Grade 10kΩ 0.5% 25ppm/°C 0402; Resistance: 10kR; Max Power Dissipation: 63mW; Controlled Revision: R5 2026-09-16; project-local frozen symbol/footprint; Tolerance: 0.5%; Temperature Coefficient: 25ppm/°C; Width: 0.02inch; RoHS Compliant: Yes; Min Operating Temperature: -55°C; Height: 0.014inch; Case Code (Metric): 1005; Ratings: AEC-Q200; Case/Package: 0402; Max Operating Temperature: 155°C; Number of Terminations: 2; Features: Moisture Resistant; Packaging: Cut Tape; Length: 0.039inch; Series: AT; Resistor Type: Thin Film; Case Code (Imperial): 0402
footprint FP-AT0402-IPC_A
pins: 1, 2

## EMG_R5_RF1
designator RF?, comment 0603WAF2205T5E
22M Ohm 1/10W Thick Film Resistor 0603 Chip - Surface Mount; MF: Uni-Royal; Controlled Revision: R5 2026-09-16; project-local frozen symbol/footprint; SnapEDA_Link: https://www.snapeda.com/parts/0603WAF2205T5E/Uni-Royal/view-part/?ref=snap; Package: 0603-2 ROYAL; Value: *; MP: 0603WAF2205T5E; Check_prices: https://www.snapeda.com/parts/0603WAF2205T5E/Uni-Royal/view-part/?ref=eda
footprint RESC1608X55N
pins: 1, 2

## EMG_R5_RF2
designator RF?, comment 0603WAF2205T5E
22M Ohm 1/10W Thick Film Resistor 0603 Chip - Surface Mount; MF: Uni-Royal; Controlled Revision: R5 2026-09-16; project-local frozen symbol/footprint; SnapEDA_Link: https://www.snapeda.com/parts/0603WAF2205T5E/Uni-Royal/view-part/?ref=snap; Package: 0603-2 ROYAL; Value: *; MP: 0603WAF2205T5E; Check_prices: https://www.snapeda.com/parts/0603WAF2205T5E/Uni-Royal/view-part/?ref=eda
footprint RESC1608X55N
pins: 1, 2

## EMG_R5_RF3
designator RF?, comment 0603WAF2205T5E
22M Ohm 1/10W Thick Film Resistor 0603 Chip - Surface Mount; MF: Uni-Royal; Controlled Revision: R5 2026-09-16; project-local frozen symbol/footprint; SnapEDA_Link: https://www.snapeda.com/parts/0603WAF2205T5E/Uni-Royal/view-part/?ref=snap; Package: 0603-2 ROYAL; Value: *; MP: 0603WAF2205T5E; Check_prices: https://www.snapeda.com/parts/0603WAF2205T5E/Uni-Royal/view-part/?ref=eda
footprint RESC1608X55N
pins: 1, 2

## EMG_R5_RF4
designator RF?, comment 0603WAF2205T5E
22M Ohm 1/10W Thick Film Resistor 0603 Chip - Surface Mount; MF: Uni-Royal; Controlled Revision: R5 2026-09-16; project-local frozen symbol/footprint; SnapEDA_Link: https://www.snapeda.com/parts/0603WAF2205T5E/Uni-Royal/view-part/?ref=snap; Package: 0603-2 ROYAL; Value: *; MP: 0603WAF2205T5E; Check_prices: https://www.snapeda.com/parts/0603WAF2205T5E/Uni-Royal/view-part/?ref=eda
footprint RESC1608X55N
pins: 1, 2

## EMG_R5_RF5
designator RF?, comment 0603WAF2205T5E
22M Ohm 1/10W Thick Film Resistor 0603 Chip - Surface Mount; MF: Uni-Royal; Controlled Revision: R5 2026-09-16; project-local frozen symbol/footprint; SnapEDA_Link: https://www.snapeda.com/parts/0603WAF2205T5E/Uni-Royal/view-part/?ref=snap; Package: 0603-2 ROYAL; Value: *; MP: 0603WAF2205T5E; Check_prices: https://www.snapeda.com/parts/0603WAF2205T5E/Uni-Royal/view-part/?ref=eda
footprint RESC1608X55N
pins: 1, 2

## EMG_R5_RF6
designator RF?, comment 0603WAF2205T5E
22M Ohm 1/10W Thick Film Resistor 0603 Chip - Surface Mount; MF: Uni-Royal; Controlled Revision: R5 2026-09-16; project-local frozen symbol/footprint; SnapEDA_Link: https://www.snapeda.com/parts/0603WAF2205T5E/Uni-Royal/view-part/?ref=snap; Package: 0603-2 ROYAL; Value: *; MP: 0603WAF2205T5E; Check_prices: https://www.snapeda.com/parts/0603WAF2205T5E/Uni-Royal/view-part/?ref=eda
footprint RESC1608X55N
pins: 1, 2

## EMG_R5_RF7
designator RF?, comment 0603WAF2205T5E
22M Ohm 1/10W Thick Film Resistor 0603 Chip - Surface Mount; MF: Uni-Royal; Controlled Revision: R5 2026-09-16; project-local frozen symbol/footprint; SnapEDA_Link: https://www.snapeda.com/parts/0603WAF2205T5E/Uni-Royal/view-part/?ref=snap; Package: 0603-2 ROYAL; Value: *; MP: 0603WAF2205T5E; Check_prices: https://www.snapeda.com/parts/0603WAF2205T5E/Uni-Royal/view-part/?ref=eda
footprint RESC1608X55N
pins: 1, 2

## EMG_R5_RF8
designator RF?, comment 0603WAF2205T5E
22M Ohm 1/10W Thick Film Resistor 0603 Chip - Surface Mount; MF: Uni-Royal; Controlled Revision: R5 2026-09-16; project-local frozen symbol/footprint; SnapEDA_Link: https://www.snapeda.com/parts/0603WAF2205T5E/Uni-Royal/view-part/?ref=snap; Package: 0603-2 ROYAL; Value: *; MP: 0603WAF2205T5E; Check_prices: https://www.snapeda.com/parts/0603WAF2205T5E/Uni-Royal/view-part/?ref=eda
footprint RESC1608X55N
pins: 1, 2

## EMG_R5_RF9
designator RF?, comment 0603WAF2205T5E
22M Ohm 1/10W Thick Film Resistor 0603 Chip - Surface Mount; MF: Uni-Royal; Controlled Revision: R5 2026-09-16; project-local frozen symbol/footprint; SnapEDA_Link: https://www.snapeda.com/parts/0603WAF2205T5E/Uni-Royal/view-part/?ref=snap; Package: 0603-2 ROYAL; Value: *; MP: 0603WAF2205T5E; Check_prices: https://www.snapeda.com/parts/0603WAF2205T5E/Uni-Royal/view-part/?ref=eda
footprint RESC1608X55N
pins: 1, 2

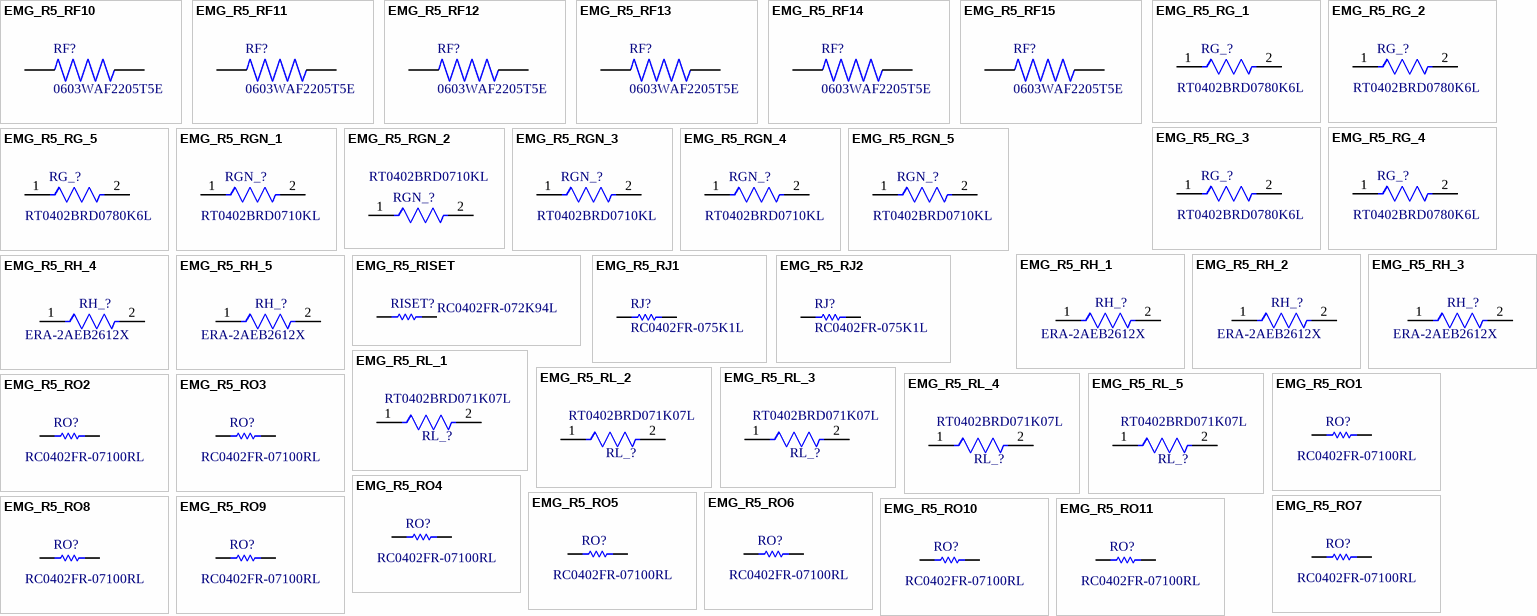
[diagram p6: symbols EMG_R5_RF10 to EMG_R5_RO11]

## EMG_R5_RF10
designator RF?, comment 0603WAF2205T5E
22M Ohm 1/10W Thick Film Resistor 0603 Chip - Surface Mount; MF: Uni-Royal; Controlled Revision: R5 2026-09-16; project-local frozen symbol/footprint; SnapEDA_Link: https://www.snapeda.com/parts/0603WAF2205T5E/Uni-Royal/view-part/?ref=snap; Package: 0603-2 ROYAL; Value: *; MP: 0603WAF2205T5E; Check_prices: https://www.snapeda.com/parts/0603WAF2205T5E/Uni-Royal/view-part/?ref=eda
footprint RESC1608X55N
pins: 1, 2

## EMG_R5_RF11
designator RF?, comment 0603WAF2205T5E
22M Ohm 1/10W Thick Film Resistor 0603 Chip - Surface Mount; MF: Uni-Royal; Controlled Revision: R5 2026-09-16; project-local frozen symbol/footprint; SnapEDA_Link: https://www.snapeda.com/parts/0603WAF2205T5E/Uni-Royal/view-part/?ref=snap; Package: 0603-2 ROYAL; Value: *; MP: 0603WAF2205T5E; Check_prices: https://www.snapeda.com/parts/0603WAF2205T5E/Uni-Royal/view-part/?ref=eda
footprint RESC1608X55N
pins: 1, 2

## EMG_R5_RF12
designator RF?, comment 0603WAF2205T5E
22M Ohm 1/10W Thick Film Resistor 0603 Chip - Surface Mount; MF: Uni-Royal; Controlled Revision: R5 2026-09-16; project-local frozen symbol/footprint; SnapEDA_Link: https://www.snapeda.com/parts/0603WAF2205T5E/Uni-Royal/view-part/?ref=snap; Package: 0603-2 ROYAL; Value: *; MP: 0603WAF2205T5E; Check_prices: https://www.snapeda.com/parts/0603WAF2205T5E/Uni-Royal/view-part/?ref=eda
footprint RESC1608X55N
pins: 1, 2

## EMG_R5_RF13
designator RF?, comment 0603WAF2205T5E
22M Ohm 1/10W Thick Film Resistor 0603 Chip - Surface Mount; MF: Uni-Royal; Controlled Revision: R5 2026-09-16; project-local frozen symbol/footprint; SnapEDA_Link: https://www.snapeda.com/parts/0603WAF2205T5E/Uni-Royal/view-part/?ref=snap; Package: 0603-2 ROYAL; Value: *; MP: 0603WAF2205T5E; Check_prices: https://www.snapeda.com/parts/0603WAF2205T5E/Uni-Royal/view-part/?ref=eda
footprint RESC1608X55N
pins: 1, 2

## EMG_R5_RF14
designator RF?, comment 0603WAF2205T5E
22M Ohm 1/10W Thick Film Resistor 0603 Chip - Surface Mount; MF: Uni-Royal; Controlled Revision: R5 2026-09-16; project-local frozen symbol/footprint; SnapEDA_Link: https://www.snapeda.com/parts/0603WAF2205T5E/Uni-Royal/view-part/?ref=snap; Package: 0603-2 ROYAL; Value: *; MP: 0603WAF2205T5E; Check_prices: https://www.snapeda.com/parts/0603WAF2205T5E/Uni-Royal/view-part/?ref=eda
footprint RESC1608X55N
pins: 1, 2

## EMG_R5_RF15
designator RF?, comment 0603WAF2205T5E
22M Ohm 1/10W Thick Film Resistor 0603 Chip - Surface Mount; MF: Uni-Royal; Controlled Revision: R5 2026-09-16; project-local frozen symbol/footprint; SnapEDA_Link: https://www.snapeda.com/parts/0603WAF2205T5E/Uni-Royal/view-part/?ref=snap; Package: 0603-2 ROYAL; Value: *; MP: 0603WAF2205T5E; Check_prices: https://www.snapeda.com/parts/0603WAF2205T5E/Uni-Royal/view-part/?ref=eda
footprint RESC1608X55N
pins: 1, 2

## EMG_R5_RG_1
designator RG_?, comment RT0402BRD0780K6L
RES SMD 80.6KOHM 0.1% 1/16W 0402; Manufacturer: Yageo; Power Rating: 0.063W; Temperature Coefficient: 25 ppm/°C; Resistance: 80.6KΩ; Voltage Rating: 50V; Tolerance: 0.001; Value: 80.6KΩ; Controlled Revision: R5 2026-09-16; project-local frozen symbol/footprint; Manufacturer Part Number: RT0402BRD0780K6L; Device Class L2: Resistors; Temperature Range Low: -55°C; Device Class L3: Chip SMD Resistors; Temperature: -55°C to +155°C; Ipc Land Pattern Name: RESC10050X30; Mouser Description: Thin Film Resistors 1/16W 80.6K ohm .1% 25ppm; Footprint Url: http://www.yageo.com/exep/pages/download/literatures/PYu-R_Mount_10.pdf; Lead Free: Yes; Category: Res; Composition: Thin Film; RoHS: TRUE; Octopart: https://octopart.com/rt0402brd0780k6l-yageo-1468076; Automotive: No; ComponentLink2Description: Datasheet; Package: RT0402; Digikey Description: RES SMD 80.6KOHM 0.1% 1/16W 0402; Height: 0.35mm; Temperature Range High: +155°C; Device Class L1: Passive Components; Series: RT; ComponentLink2URL: http://www.yageo.com/documents/recent/PYu-RT_1-to-0.01_RoHS_L_9.pdf
footprint FP-RT0402-MFG
pins: 1, 2